# Altium footprint library PCB - THT - CAS5075XX.PcbLib: 1 footprints
Each footprint in its own frame and in the unit in brackets; x right, y up, seen from the top. Pads: shape width x height; smd on the part's side, far side on the other; paste and mask are expansions set on the pad; w line width, h text height; cw(c..) or ccw(c..) is an arc to the next point about the centre after c.
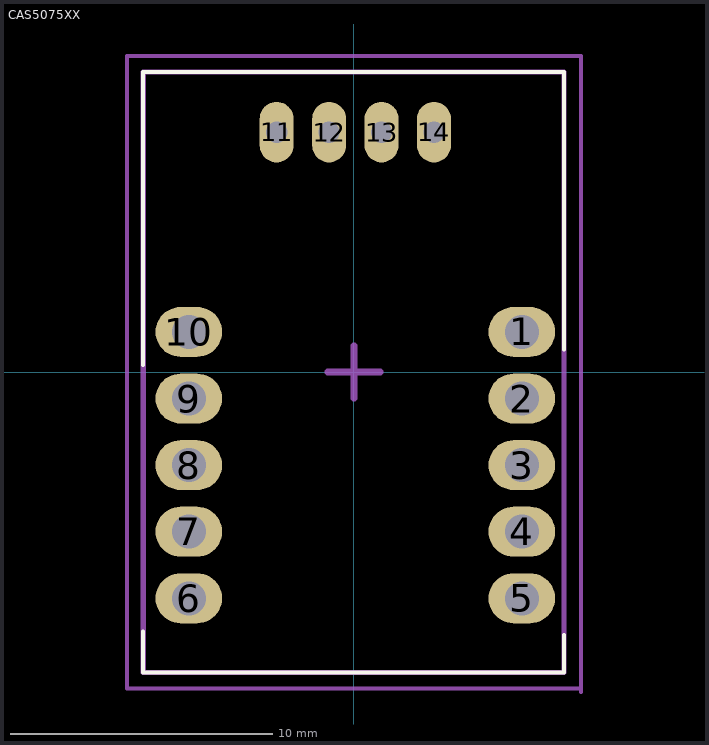
[diagram p0: the footprint, top view; thin cyan lines are the x and y axes]

## CAS5075XX [mm] "customized footprint to be compatible for all Sensitec CAS5000 sensors"
pads (14):
  oval 2.54x1.905 hole 1.295: 1(6.4,1.53) 2(6.4,-1.01) 3(6.4,-3.55) 4(6.4,-6.09) 5(6.4,-8.63) 6(-6.3,-8.63) 7(-6.3,-6.09) 8(-6.3,-3.55) 9(-6.3,-1.01) 10(-6.3,1.53)
  oval 1.295x2.311 hole 0.813: 11(-2.95,9.15) 12(-0.95,9.15) 13(1.05,9.15) 14(3.05,9.15)
Top Overlay:
  lines w0.152: -8.04,-9.905 -8.04,-11.46 8.01,-11.46 8.01,-10.025 ; -8.04,0.265 -8.04,11.43 ; -8.04,11.44 8.01,11.44 ; 8.01,0.858 8.01,11.43
Top Assembly:
  lines w0.2: -8.04,-11.46 8.01,-11.46 8.01,11.44 -8.04,11.44 -8.04,-11.46
Top Courtyard:
  lines w0.152: 8.65,-12.21 8.65,12.06 -8.65,12.06 -8.65,-12.07 8.65,-12.07
Top Designator:
  text ".Designator" at -7.976,12.382 h1.52
Top Component Center:
  lines w0.254: -1,0 0,0 ; 0,-1 0,0 ; 0,1 0,0 ; 1,0 0,0
3D body "5145.3021.0._BG1.02_CAS5050SRA-KH.STEP": height 23.4, standoff -3.3, extent -7.889,-11.46 8.011,11.44